# Altium schematic symbol library PowerManagement.SchLib: 15 symbols
Pins are listed as number, name and electrical type; pins without a type are passive.

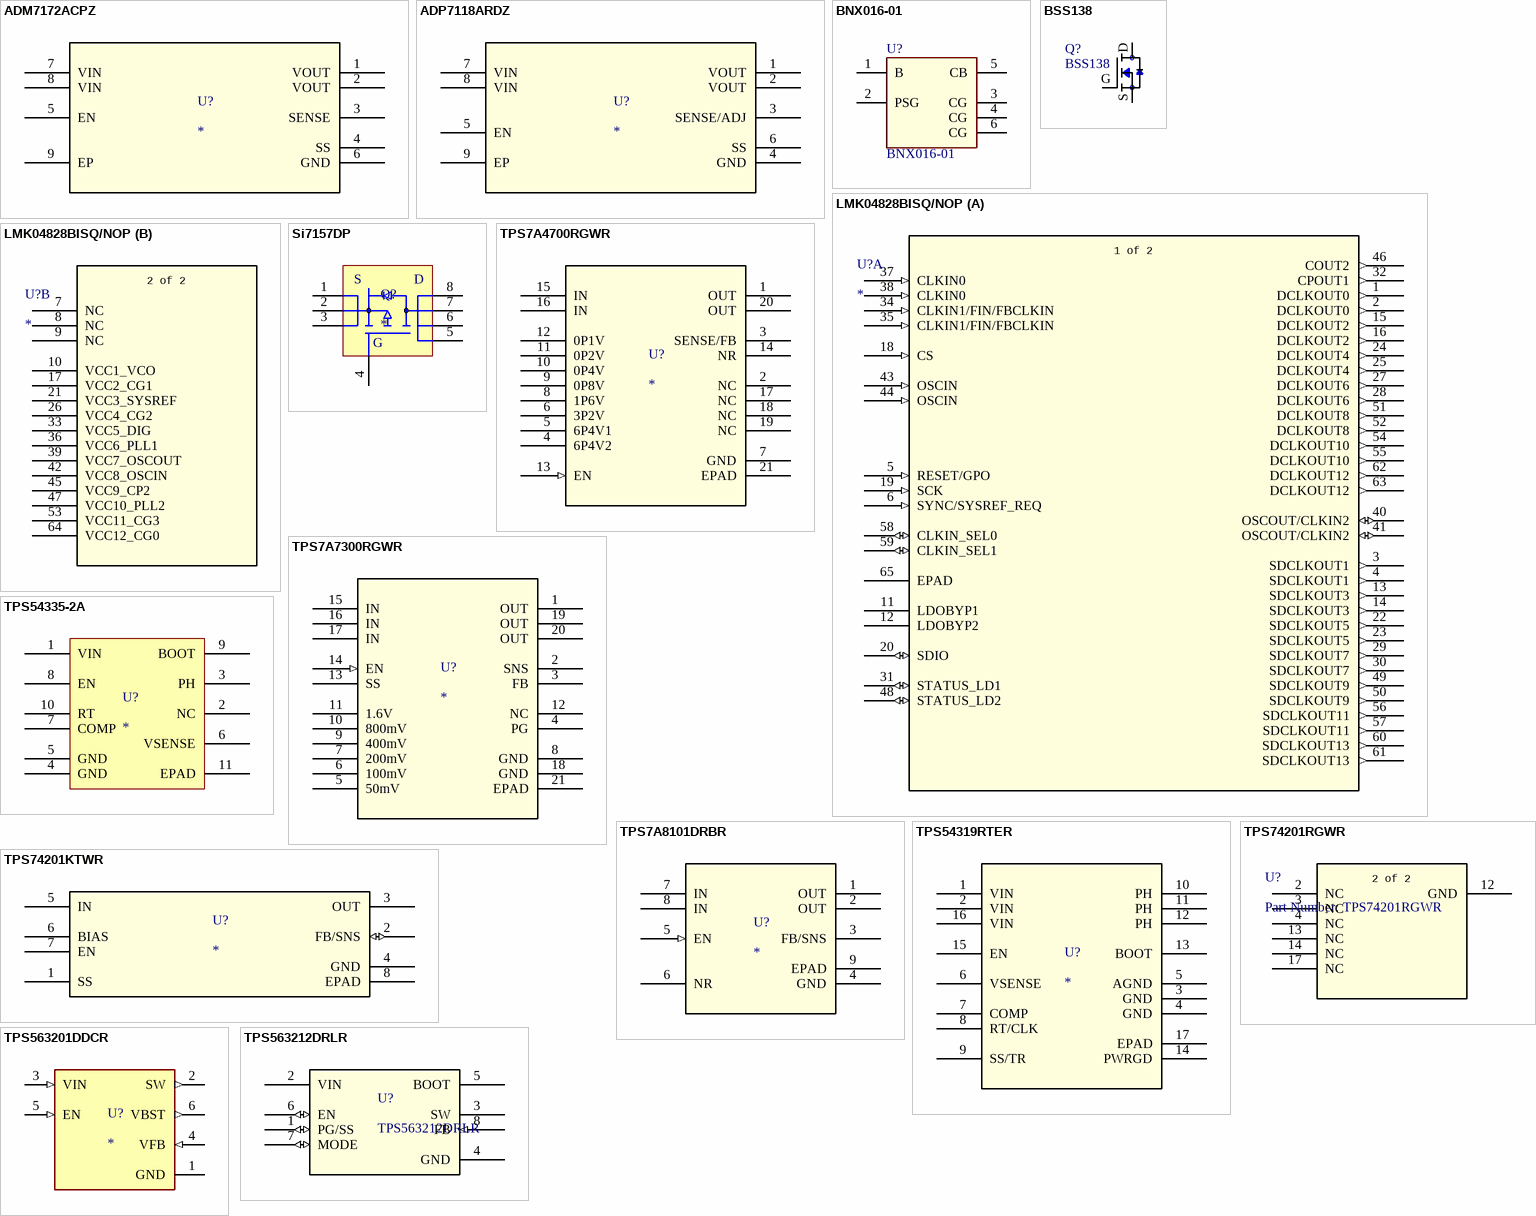
[diagram p0: symbols ADM7172ACPZ to TPS563212DRLR]

## ADM7172ACPZ
designator U?
6.5V, 2A, Ultralow Noise, High PSRR, Fast Transient Response CMOS LDO; Value: Value; Type: Type; RefDes: RefDes
footprint LFCSP_WD-8 (CP_8_21, ADM7172)
pins: 1 VOUT, 2 VOUT, 3 SENSE, 4 SS, 5 EN, 6 GND, 7 VIN, 8 VIN, 9 EP

## ADP7118ARDZ
designator U?
20V, 200mA, Low Noise, CMOS LDO Linear Regulator; Value: Value; Type: Type; RefDes: RefDes
footprint SOIC-EP-8 (RD-8-1, ADP7118)
pins: 1 VOUT, 2 VOUT, 3 SENSE/ADJ, 4 GND, 5 EN, 6 SS, 7 VIN, 8 VIN, 9 EP

## BNX016-01
designator U?
Filter: anti-interference; wideband; Mounting: THT; 15A; -40Ã·125Â°; MF: Murata Electronics; MP: BNX016-01; Digi-Key_Purchase_URL: https://www.digikey.com/product-detail/en/murata-electronics/BNX016-01/490-5055-ND/1825576?utm_source=snapeda&utm_medium=aggregator&utm_campaign=symbol; Package: Block-4 Murata; SnapEDA_Link: https://www.snapeda.com/parts/BNX016-01/Murata%20Electronics%20North%20America/view-part/?ref=snap; Digi-Key_Part_Number: 490-5055-ND; Value: *
footprint FIL_BNX016-01 (6 pin Through Hole EMI Filter)
pins: 1 B, 2 PSG (power), 3 CG (power), 4 CG (power), 5 CB, 6 CG (power)

## BSS138
designator Q?
N-Channel Logic Level Enhancement Mode Field Effect Transistor; MF: MICROSS/On Semiconductor; MP: BSS138; Price: None; Availability: Unavailable; Package: TO-236-3 Micross; SnapEDA_Link: https://www.snapeda.com/parts/BSS138/MICROSS/On%20Semiconductor/view-part/?ref=snap; Value: *
footprint BSS138-SOT23 (Compact industry standard SOT-23 surface mount)
pins: D, G, S

## LMK04828BISQ/NOP
designator U?
Ultra Low-Noise JESD204B Compliant Clock Jitter Cleaner with Dual Loop PLLs; Manufacturer_Part_Number: LMK04828BISQ/NOPB; Built_By: EMA_UL_Team; Vendor: Texas Instruments; RefDes: RefDes; Type: DEV; Value: Value
footprint NKD64
part A pins: 1 DCLKOUT0 (out), 2 DCLKOUT0 (out), 3 SDCLKOUT1 (out), 4 SDCLKOUT1 (out), 5 RESET/GPO (in), 6 SYNC/SYSREF_REQ (in), 11 LDOBYP1, 12 LDOBYP2, 13 SDCLKOUT3 (out), 14 SDCLKOUT3 (out), 15 DCLKOUT2 (out), 16 DCLKOUT2 (out), 18 CS (in), 19 SCK (in), 20 SDIO (io), 22 SDCLKOUT5 (out), 23 SDCLKOUT5 (out), 24 DCLKOUT4 (out), 25 DCLKOUT4 (out), 27 DCLKOUT6 (out), 28 DCLKOUT6 (out), 29 SDCLKOUT7 (out), 30 SDCLKOUT7 (out), 31 STATUS_LD1 (io), 32 CPOUT1 (out), 34 CLKIN1/FIN/FBCLKIN (in), 35 CLKIN1/FIN/FBCLKIN (in), 37 CLKIN0 (in), 38 CLKIN0 (in), 40 OSCOUT/CLKIN2 (io), 41 OSCOUT/CLKIN2 (io), 43 OSCIN (in), 44 OSCIN (in), 46 COUT2 (out), 48 STATUS_LD2 (io), 49 SDCLKOUT9 (out), 50 SDCLKOUT9 (out), 51 DCLKOUT8 (out), 52 DCLKOUT8 (out), 54 DCLKOUT10 (out), 55 DCLKOUT10 (out), 56 SDCLKOUT11 (out), 57 SDCLKOUT11 (out), 58 CLKIN_SEL0 (io), 59 CLKIN_SEL1 (io), 60 SDCLKOUT13 (out), 61 SDCLKOUT13 (out), 62 DCLKOUT12 (out), 63 DCLKOUT12 (out), 65 EPAD
part B pins: 7 NC, 8 NC, 9 NC, 10 VCC1_VCO (power), 17 VCC2_CG1 (power), 21 VCC3_SYSREF (power), 26 VCC4_CG2 (power), 33 VCC5_DIG (power), 36 VCC6_PLL1 (power), 39 VCC7_OSCOUT (power), 42 VCC8_OSCIN (power), 45 VCC9_CP2 (power), 47 VCC10_PLL2 (power), 53 VCC11_CG3 (power), 64 VCC12_CG0 (power)
part A text: 1 of 2
part B text: 2 of 2

## Si7157DP
designator Q?
P-Channel 20-V (D-S) MOSFET
footprint Si7157DP-SON (SON, 8-Leads, Body 5.15x6.15mm, Pitch 1.27mm, Thermal Pad 3.98x3.66mm, IPC Medium Density)
pins: 1, 2, 3, 4, 5, 6, 7, 8
text: S; D; G

## TPS7A4700RGWR
designator U?
36-V, 1-A, 4-uV RMS, RF LDO Voltage Regulator; Manufacturer_Part_Number: TPS7A4700RGWR; Built_By: EMA_UL_Team; Vendor: Texas Instruments; RefDes: RefDes; Type: DEV; Value: Value
footprint PVQFN20 (PQFN, 20-Leads, Body 5.00x5.00mm, Pitch 0.65mm, Thermal Pad 2.95x2.95mm, IPC Medium Density)
pins: 1 OUT (power), 2 NC, 3 SENSE/FB, 4 6P4V2, 5 6P4V1, 6 3P2V, 7 GND, 8 1P6V, 9 0P8V, 10 0P4V, 11 0P2V, 12 0P1V, 13 EN (in), 14 NR, 15 IN (power), 16 IN (power), 17 NC, 18 NC, 19 NC, 20 OUT (power), 21 EPAD

## TPS7A7300RGWR
designator U?
3-A, Fast-Transient, Low-Dropout Voltage Regulator; Manufacturer_Part_Number: TPS7A4700RGWR; Built_By: EMA_UL_Team; Vendor: Texas Instruments; RefDes: RefDes; Type: DEV; Value: Value
footprint PVQFN20 (PQFN, 20-Leads, Body 5.00x5.00mm, Pitch 0.65mm, Thermal Pad 2.95x2.95mm, IPC Medium Density)
pins: 1 OUT (power), 2 SNS, 3 FB, 4 PG, 5 50mV, 6 100mV, 7 200mV, 8 GND, 9 400mV, 10 800mV, 11 1.6V, 12 NC, 13 SS, 14 EN (in), 15 IN (power), 16 IN (power), 17 IN, 18 GND, 19 OUT, 20 OUT (power), 21 EPAD

## TPS7A8101DRBR
designator U?
Low-Noise, Wide-Bandwidth, High PSRR, Low_Dropout 1-A Linear Regulator; Manufacturer: Texas Instruments; Manufacturer_Part_Number: TPS7A8101DRBR; Built_By: EMA_UL_Team; Vendor: Texas Instruments; RefDes: RefDes; Type: DEV; Value: Value
footprint DRB8_1P75X1P5
pins: 1 OUT (power), 2 OUT (power), 3 FB/SNS, 4 GND (power), 5 EN (in), 6 NR, 7 IN (power), 8 IN (power), 9 EPAD

## TPS54319RTER
designator U?
2.95V to 6-V Input, 3-A Output, 2-MHz, Synchronous Step-Down Switcher With Integrated FETs (SWIFT TM); Manufacturer: Texas Instruments; Manufacturer_Part_Number: TPS54319RTER; Built_By: EMA_UL_Team; Vendor: Texas Instruments; RefDes: RefDes; Type: DEV; Value: Value
footprint PWQFN16 (RTE (S-PWQFN-N16), TPS54319)
pins: 1 VIN (power), 2 VIN (power), 3 GND (power), 4 GND (power), 5 AGND (power), 6 VSENSE, 7 COMP, 8 RT/CLK, 9 SS/TR, 10 PH, 11 PH, 12 PH, 13 BOOT, 14 PWRGD (power), 15 EN, 16 VIN (power), 17 EPAD

## TPS54335-2A
designator U?
TPS54335-2A 4.5-V to 28-V Input, 3-A Output, Synchronous / Step-Down DC-DC Converter
footprint TPS54335-2A-VSON-10 (TPS54335-2A-VSON)
pins: 1 VIN, 2 NC, 3 PH, 4 GND, 5 GND, 6 VSENSE, 7 COMP, 8 EN, 9 BOOT, 10 RT, 11 EPAD

## TPS74201KTWR
designator U?
1.5-A Ultra-LDO With Programmable Soft-Start; Manufacturer_Part_Number: TPS74201KTWR; Vendor: Texas Instruments; Built_By: EMA_UL_Team; C: Copyright (C) 2015 Accelerated Designs. All rights reserved; Manufacturer: Texas Instruments; RefDes: RefDes; Type: DEV; Value: Value
footprint KTW7
footprint PVQFN20 (PQFN, 20-Leads, Body 5.00x5.00mm, Pitch 0.65mm, Thermal Pad 2.95x2.95mm, IPC Medium Density); pin to pad 1>15 2>16 3>1+18+19+20 4>12 5>5+6+7+8 6>10 7>11 8>21
pins: 1 SS, 2 FB/SNS (io), 3 OUT (power), 4 GND (power), 5 IN (power), 6 BIAS, 7 EN, 8 EPAD

## TPS74201RGWR
designator U?, comment Part Number: TPS74201RGWR
1.5-A Ultra-LDO With Programmable Soft-Start
footprint PVQFN20 (PQFN, 20-Leads, Body 5.00x5.00mm, Pitch 0.65mm, Thermal Pad 2.95x2.95mm, IPC Medium Density)
pins: 2 NC, 3 NC, 4 NC, 12 GND (power), 13 NC, 14 NC, 17 NC
text: 2 of 2

## TPS563201DDCR
designator U?
4.5 V to 17 V input, 3 A output, synchronous step-down converter in Eco-mode; MF: Texas Instruments; MP: TPS563201DDCR; Value: *; Availability: In Stock; Check_prices: https://www.snapeda.com/parts/TPS563201DDCR/Texas+Instruments/view-part/?ref=eda; Price: None; SnapEDA_Link: https://www.snapeda.com/parts/TPS563201DDCR/Texas+Instruments/view-part/?ref=snap; Purchase-URL: https://pricing.snapeda.com/search/part/TPS563201DDCR/?ref=eda; Package: SOT-23-THN-6 Texas Instruments
footprint SOT95P280X110-6N (TPS563201DDCR)
pins: 1 GND (power), 2 SW (out), 3 VIN (in), 4 VFB (in), 5 EN (in), 6 VBST (out)

## TPS563212DRLR
designator U?
TPS563212 4.2-V to 18-V Input, 3-A Synchronous Buck Converter / in a SOT-5X3 Package; Mfr_Name: Texas Instruments; Copyright: Copyright (C) 2022 Ultra Librarian. All rights reserved.; Manufacturer_Part_Number: TPS563212DRLR; RefDes: RefDes; Type: DEV
footprint SOT5X3_DRL_TEX
footprint SOT5X3_DRL_TEX (TPS563212)
pins: 1 PG/SS (io), 2 VIN (power), 3 SW (power), 4 GND, 5 BOOT (power), 6 EN (io), 7 MODE (io), 8 FB (in)